# EAGLE library part ADM7171ACPZ-R7 (library QUAD_ICs)
LDO 1.2V digital supply 6.5 V, 1 A, Ultralow Noise, High PSRR, Fast Transient Response CMOS LDO
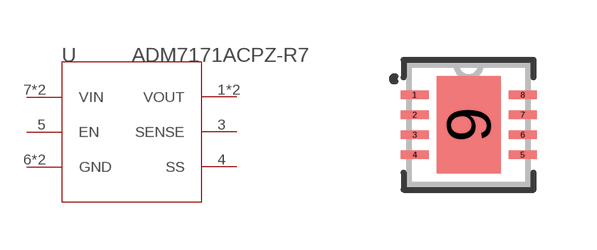
[diagram p8: symbol with the pads of CP_8_21_ADI-L; footprint CP_8_21_ADI-L]

Designator prefix U

## ADM7171ACPZ-R7CP_8_21_ADI-L (BUILT_BY: EMA_UL_Team; MANUFACTURER_PART_NUMBER: ADM7171ACPZ-1.3-R7; SOURCELIBRARY: Analog_2015-12-15; VENDOR: Analog Devices Inc)  [CP_8_21_ADI-L]
1  VOUT  pas
2  VOUT  pas
3  SENSE  pas
4  SS  pas
5  EN  pas
6  GND  pas
7  VIN  pas
8  VIN  pas
9  GND  pas

## Footprint CP_8_21_ADI-L (pad centres in mm)
smd 0.7 x 0.22: 1 -1.35,0.75; 2 -1.35,0.25; 3 -1.35,-0.25; 4 -1.35,-0.75; 5 1.35,-0.75; 6 1.35,-0.25; 7 1.35,0.25; 8 1.35,0.75
smd 1.6 x 2.44: 9 0,0